# EAGLE library part OPA855IDSGR (library OPA855IDSGR)
High Speed Operational Amplifiers 8 GHz Gain Bandwidth Product, Decompensated Transimpedance Amplifier with Bipolar Input 8-WSON -40 to 125 Source: Datasheet <http://www.ti.com/lit/ds/symlink/opa855.pdf>
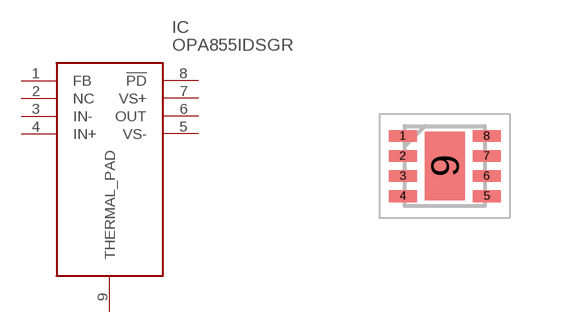
[diagram p0: symbol with the pads of SON50P200X200X80-9N; footprint SON50P200X200X80-9N]

Designator prefix IC

## OPA855IDSGR (Arrow_Part_Number: OPA855IDSGR; Arrow_Price-Stock: https://www.arrow.com/en/products/opa855idsgr/texas-instruments?region=nac; Description: High Speed Operational Amplifiers 8 GHz Gain Bandwidth Product, Decompensated Transimpedance Amplifier with Bipolar Input 8-WSON -40 to 125; Height: 0.8mm; Manufacturer_Name: Texas Instruments; Manufacturer_Part_Number: OPA855IDSGR; Mouser_Part_Number: 595-OPA855IDSGR; Mouser_Price-Stock: https://www.mouser.co.uk/ProductDetail/Texas-Instruments/OPA855IDSGR?qs=byeeYqUIh0NcoHbLiEzp0g%3D%3D)  [SON50P200X200X80-9N]
1  FB  in
2  NC  nc
3  IN-  in
4  IN+  in
5  VS-  pwr
6  OUT  out
7  VS+  pwr
8  !PD  in
9  THERMAL_PAD  pwr

## Footprint SON50P200X200X80-9N (pad centres in mm)
WSON(DSG)
smd 0.7 x 0.3: 1 -1.05,0.75; 2 -1.05,0.25; 3 -1.05,-0.25; 4 -1.05,-0.75; 5 1.05,-0.75; 6 1.05,-0.25; 7 1.05,0.25; 8 1.05,0.75
smd 1 x 1.7: 9 0,0